# Altium footprint library A768MS108M1CLAS015.PcbLib: 3 footprints
Each footprint in its own frame and in the unit in brackets; x right, y up, seen from the top. Pads: shape width x height; smd on the part's side, far side on the other; paste and mask are expansions set on the pad; w line width, h text height; cw(c..) or ccw(c..) is an arc to the next point about the centre after c.
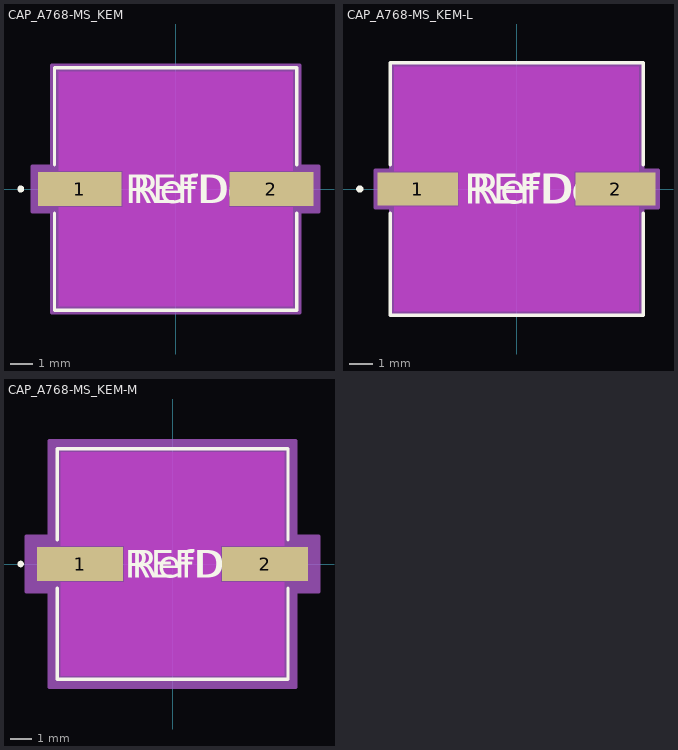
[diagram p0: the footprints below, top view; thin cyan lines are the x and y axes]

## CAP_A768-MS_KEM [mil]
pads (2):
  rect 146x59 smd paste+0 mask+0: 1(-167.5,0) 2(167.5,0)
Top Layer keep-out:
  region: -92.5,-31.5 -92.5,31.5 92.5,31.5 92.5,-31.5
  region: -204.5,31.5 -204.5,204.5 204.5,204.5 204.5,31.5
  region: -204.5,-204.5 -204.5,-31.5 204.5,-31.5 204.5,-204.5
Top Overlay:
  circle w6: c-270.5,0 r3
  lines w6: -211.5,-42.6 -211.5,-211.5 211.5,-211.5 211.5,-42.6 ; -211.5,42.6 -211.5,211.5 211.5,211.5 211.5,42.6
  text "RefDes" at -75,-25 h50
  text "REFDES" at -87.5,-25 h50
Keep-Out Layer:
  region: -92.5,-31.5 -92.5,31.5 92.5,31.5 92.5,-31.5
Mechanical 13:
  circle w0: c-186.5,0 r3
  lines w1: -206.5,-103.25 -103.25,-206.5 ; -206.5,103.25 -103.25,206.5 ; -206.5,-206.5 206.5,-206.5 206.5,206.5 -206.5,206.5 -206.5,-206.5
  text "RefDes2" at -87.5,-25 h50
Mechanical 15:
  region: -216.5,-39.5 -250.5,-39.5 -250.5,39.5 -216.5,39.5 -216.5,216.5 216.5,216.5 216.5,39.5 250.5,39.5 250.5,-39.5 216.5,-39.5 216.5,-216.5 -216.5,-216.5
  lines w6: -250.5,-39.5 -250.5,39.5 -216.5,39.5 -216.5,216.5 216.5,216.5 216.5,39.5 250.5,39.5 250.5,-39.5 216.5,-39.5 216.5,-216.5 -216.5,-216.5 -216.5,-39.5 -250.5,-39.5
3D body "CAP_A768-MS_KEM.step": height 502.09, standoff 0, extent -220.51,-206.5 220.51,206.5

## CAP_A768-MS_KEM-L [mil]
pads (2):
  rect 134x55 smd paste+0 mask+0: 1(-165.5,0) 2(165.5,0)
Top Layer keep-out:
  region: -96.5,-29.5 -96.5,29.5 96.5,29.5 96.5,-29.5
  region: -204.5,29.5 -204.5,204.5 204.5,204.5 204.5,29.5
  region: -204.5,-204.5 -204.5,-29.5 204.5,-29.5 204.5,-204.5
Top Overlay:
  circle w6: c-262.5,0 r3
  lines w6: -211.5,-40.6 -211.5,-211.5 211.5,-211.5 211.5,-40.6 ; -211.5,40.6 -211.5,211.5 211.5,211.5 211.5,40.6
  text "RefDes" at -75,-25 h50
  text "REFDES" at -87.5,-25 h50
Keep-Out Layer:
  region: -96.5,-29.5 -96.5,29.5 96.5,29.5 96.5,-29.5
Mechanical 13:
  circle w0: c-186.5,0 r3
  lines w1: -206.5,-103.25 -103.25,-206.5 ; -206.5,103.25 -103.25,206.5 ; -206.5,-206.5 206.5,-206.5 206.5,206.5 -206.5,206.5 -206.5,-206.5
  text "RefDes2" at -87.5,-25 h50
Mechanical 15:
  region: -210.5,-31.5 -236.5,-31.5 -236.5,31.5 -210.5,31.5 -210.5,210.5 210.5,210.5 210.5,31.5 236.5,31.5 236.5,-31.5 210.5,-31.5 210.5,-210.5 -210.5,-210.5
  lines w6: -236.5,-31.5 -236.5,31.5 -210.5,31.5 -210.5,210.5 210.5,210.5 210.5,31.5 236.5,31.5 236.5,-31.5 210.5,-31.5 210.5,-210.5 -210.5,-210.5 -210.5,-31.5 -236.5,-31.5
3D body "CAP_A768-MS_KEM.step": height 502.09, standoff 0, extent -220.51,-206.5 220.51,206.5

## CAP_A768-MS_KEM-M [mil]
pads (2):
  rect 158x63 smd paste+0 mask+0: 1(-169.5,0) 2(169.5,0)
Top Layer keep-out:
  region: -88.5,-33.5 -88.5,33.5 88.5,33.5 88.5,-33.5
  region: -204.5,33.5 -204.5,204.5 204.5,204.5 204.5,33.5
  region: -204.5,-204.5 -204.5,-33.5 204.5,-33.5 204.5,-204.5
Top Overlay:
  circle w6: c-278.5,0 r3
  lines w6: -211.5,-44.6 -211.5,-211.5 211.5,-211.5 211.5,-44.6 ; -211.5,44.6 -211.5,211.5 211.5,211.5 211.5,44.6
  text "RefDes" at -75,-25 h50
  text "REFDES" at -87.5,-25 h50
Keep-Out Layer:
  region: -88.5,-33.5 -88.5,33.5 88.5,33.5 88.5,-33.5
Mechanical 13:
  circle w0: c-186.5,0 r3
  lines w1: -206.5,-103.25 -103.25,-206.5 ; -206.5,103.25 -103.25,206.5 ; -206.5,-206.5 206.5,-206.5 206.5,206.5 -206.5,206.5 -206.5,-206.5
  text "RefDes2" at -87.5,-25 h50
Mechanical 15:
  region: -226.5,-51.5 -268.5,-51.5 -268.5,51.5 -226.5,51.5 -226.5,226.5 226.5,226.5 226.5,51.5 268.5,51.5 268.5,-51.5 226.5,-51.5 226.5,-226.5 -226.5,-226.5
  lines w6: -268.5,-51.5 -268.5,51.5 -226.5,51.5 -226.5,226.5 226.5,226.5 226.5,51.5 268.5,51.5 268.5,-51.5 226.5,-51.5 226.5,-226.5 -226.5,-226.5 -226.5,-51.5 -268.5,-51.5
3D body "CAP_A768-MS_KEM.step": height 502.09, standoff 0, extent -220.51,-206.5 220.51,206.5